# EAGLE library part FDC6330L (library OpenMotics)
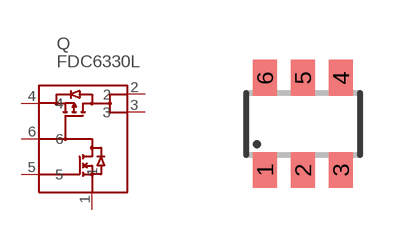
[diagram p30: symbol with the pads of SOT23_6; footprint SOT23_6]

Designator prefix Q

## FDC6330L  [SOT23_6]
1  1  pas
2  2  pas
3  3  pas
4  4  pas
5  5  pas
6  6  pas

## Footprint SOT23_6 (pad centres in mm)
smd 0.6 x 0.9: 1 -0.95,-1.15; 2 0,-1.15; 3 0.95,-1.15; 4 0.95,1.15; 5 0,1.15; 6 -0.95,1.15